# EAGLE library part MOC3021 (library MOC3021)
Optocoupler Triac Output, 400V, DIP6 Lite-On MOC3021 Triac Output Optocoupler, Through Hole, 6-Pin PDIP Source: Datasheet <https://componentsearchengine.com/Datasheets/1/MOC3021.pdf>
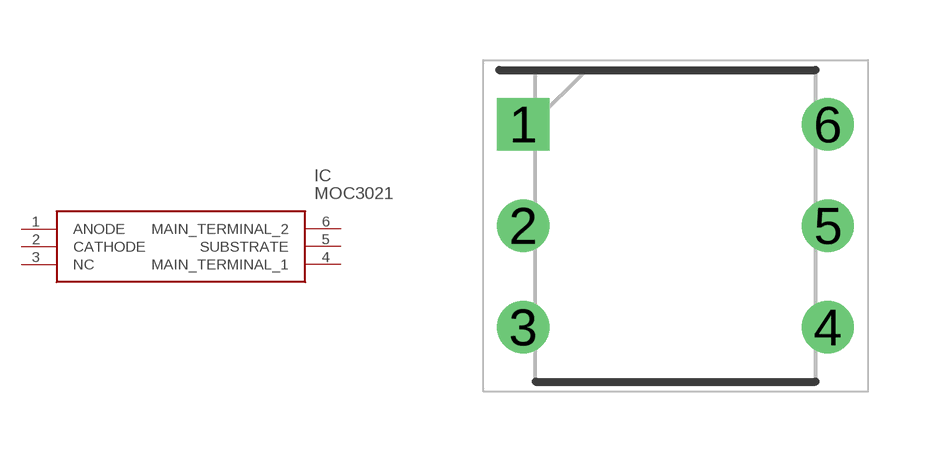
[diagram p0: symbol with the pads of DIP762W60P254L730H500Q6N; footprint DIP762W60P254L730H500Q6N]

Designator prefix IC

## MOC3021 (Description: Optocoupler Triac Output, 400V, DIP6 Lite-On MOC3021 Triac Output Optocoupler, Through Hole, 6-Pin PDIP; Height: 5mm; Manufacturer_Name: Lite-On; Manufacturer_Part_Number: MOC3021; Mouser_Part_Number: 859-MOC3021; Mouser_Price-Stock: https://www.mouser.com/Search/Refine.aspx?Keyword=859-MOC3021)  [DIP762W60P254L730H500Q6N]
1  ANODE
2  CATHODE
3  NC  nc
4  MAIN_TERMINAL_1
5  SUBSTRATE
6  MAIN_TERMINAL_2

## Footprint DIP762W60P254L730H500Q6N (pad centres in mm)
MOC3021
drill 0.8 pad 1.2 square: 1 -3.81,2.54
drill 0.8 pad 1.2: 2 -3.81,0; 3 -3.81,-2.54; 4 3.81,-2.54; 5 3.81,0; 6 3.81,2.54